# Altium schematic symbol library ST5-20-1.00-L-D-P-TR.SchLib: 1 symbol
Pins are listed as number, name and electrical type; pins without a type are passive.

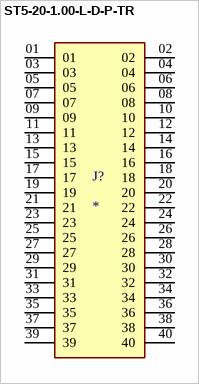
[diagram p0: symbol ST5-20-1.00-L-D-P-TR]

## ST5-20-1.00-L-D-P-TR
designator J?
0.50 mm Micro Blade & Beam Slim Body Terminal Strip; MP: ST5-20-1.00-L-D-P-TR; Value: *; Package: None; Availability: Unavailable; Price: None
footprint SAMTEC_ST5-20-1.00-L-D-P-TR
pins: 01, 02, 03, 04, 05, 06, 07, 08, 09, 10, 11, 12, 13, 14, 15, 16, 17, 18, 19, 20, 21, 22, 23, 24, 25, 26, 27, 28, 29, 30, 31, 32, 33, 34, 35, 36, 37, 38, 39, 40